# Altium footprint library Switches.PcbLib: 7 footprints
Each footprint in its own frame and in the unit in brackets; x right, y up, seen from the top. Pads: shape width x height; smd on the part's side, far side on the other; paste and mask are expansions set on the pad; w line width, h text height; cw(c..) or ccw(c..) is an arc to the next point about the centre after c.
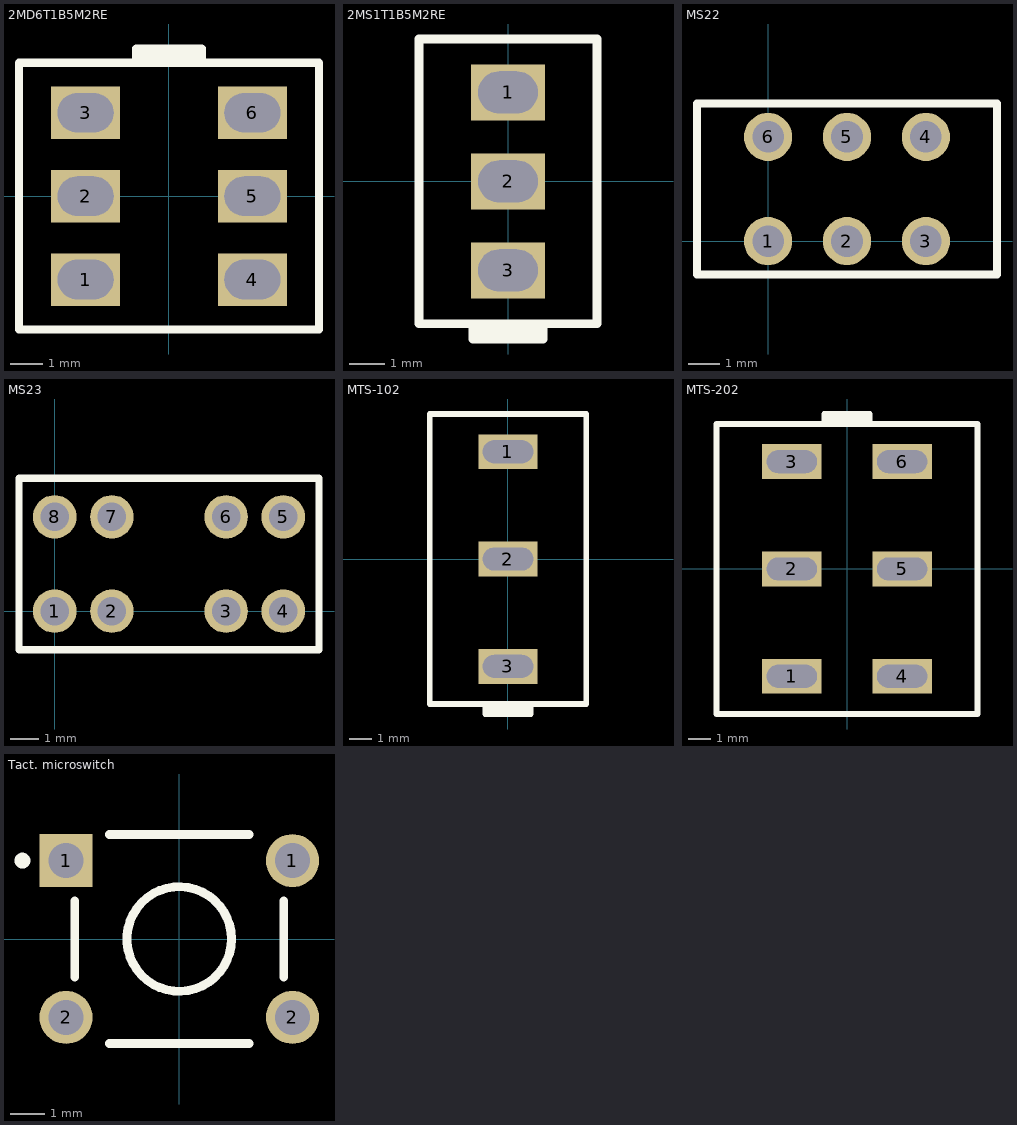
[diagram p0: the footprints below, top view; thin cyan lines are the x and y axes]

## 2MD6T1B5M2RE [mm] "Sub-minature Dual Pole Dual Throw on-on-on Switch"
pads (6):
  rect 2.1x1.6 hole 1.2 slot 1.7 at 0 deg: 1(-2.54,-2.54) 2(-2.54,0) 3(-2.54,2.54) 4(2.54,-2.54) 5(2.54,0) 6(2.54,2.54)
Top Overlay:
  lines w0.254: -1,4.1 -1,4.5 1,4.5 1,4.1 ; -1,4.3 1,4.3 ; -4.57,-4.065 4.57,-4.065 4.57,4.065 -4.57,4.065 -4.57,-4.065
3D body "5mm DPDT Mini Toggle Switch.step": height 4, standoff -22.95, extent -5.5,-5.498 5.491,6.474

## 2MS1T1B5M2RE [mm] "Sub-minature Single Pole Dual Throw on-on Switch"
pads (3):
  rect 2.1x1.6 hole 1.2 slot 1.7 at 0 deg: 1(0,2.54) 2(0,0) 3(0,-2.54)
Top Overlay:
  lines w0.254: -1,-4.3 1,-4.3 ; -1,-4.1 -1,-4.5 1,-4.5 1,-4.1 ; -2.54,-4.065 2.54,-4.065 2.54,4.065 -2.54,4.065 -2.54,-4.065
3D body "200-MSP-1-T3-B1-M2-PE-rev2.step": height 21.54, standoff -4, extent -3.5,-4.05 3.5,4.05

## MS22 [mm] "MS22 DPDT/SPDT slider switch"
pads (6):
  round 1.524 hole 1: 1(0,0) 2(2.5,0) 3(5,0) 4(5,3.3) 5(2.5,3.3) 6(0,3.3)
Top Overlay:
  lines w0.254: -2.25,-1.05 -2.25,4.35 7.25,4.35 7.25,-1.05 -2.25,-1.05
3D body "Selector Switch - SS12D00.stp": height 6.85, standoff -2.65, extent -1.793,-0.153 6.793,3.555

## MS23 [mm] "MS23 DP3T/SP3T slider switch"
pads (8):
  round 1.524 hole 1: 1(0,0) 2(2,0) 3(6,0) 4(8,0) 5(8,3.3) 6(6,3.3) 7(2,3.3) 8(0,3.3)
Top Overlay:
  lines w0.254: -1.25,-1.35 9.25,-1.35 9.25,4.65 -1.25,4.65 -1.25,-1.35

## MTS-102 [mm] "SPDT on-on toggle switch"
pads (3):
  rect 2.6x1.524 hole 1 slot 2.2 at 0 deg: 1(0,4.7) 2(0,0) 3(0,-4.7)
Top Overlay:
  lines w0.254: -1,-6.585 1,-6.585 ; -1,-6.385 -1,-6.785 1,-6.785 1,-6.385 ; -3.43,-6.35 3.43,-6.35 3.43,6.35 -3.43,6.35 -3.43,-6.35
3D body "6mm SPDT Mini Toggle Switch.step": height 28.44, standoff -4.05, extent -5.974,-7 5.974,6.45

## MTS-202 [mm] "DPDT on-on toggle switch"
pads (6):
  rect 2.6x1.524 hole 1 slot 2.2 at 0 deg: 1(-2.415,-4.7) 2(-2.415,0) 3(-2.415,4.7) 4(2.415,-4.7) 5(2.415,0) 6(2.415,4.7)
Top Overlay:
  lines w0.254: -1,6.385 -1,6.785 1,6.785 1,6.385 ; -1,6.585 1,6.585 ; -5.715,-6.35 5.715,-6.35 5.715,6.35 -5.715,6.35 -5.715,-6.35
3D body "6mm DPDT Mini Toggle Switch.step": height 28.44, standoff -4.05, extent -6.25,-6.45 6.25,7

## Tact. microswitch [mm] "6 x 6 mm tactile microswitch THT"
pads (4):
  rect 1.524x1.524 hole 1: 1(-3.25,2.25)
  round 1.524 hole 1: 1(3.25,2.25) 2(-3.25,-2.25) 2(3.25,-2.25)
Top Overlay:
  circle w0.254: c-4.5,2.25 r0.1
  circle w0.254: c0,0 r1.5
  lines w0.254: -3,-1.1 -3,1.1 ; -2,-3 2,-3 ; -2,3 2,3 ; 3,-1.1 3,1.1
3D body "A06-9.5.step": height 9.6, standoff -3.4, extent -3.917,-2.9 3.917,3.1